# EAGLE library part JCA0305D03 (library custom_parts)
XP JCA 0305D03 DC-DC converter. +5V input, +-15V output, 100mA.
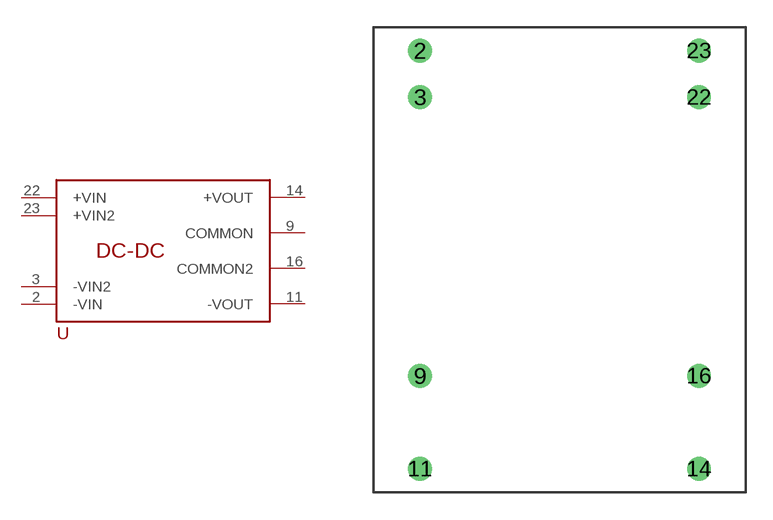
[diagram p3: symbol with the pads of XPDCDCCONV; footprint XPDCDCCONV]

Designator prefix -

## JCA0305D03  [XPDCDCCONV]
2  -VIN
3  -VIN2
9  COMMON
11  -VOUT
14  +VOUT
16  COMMON2
22  +VIN
23  +VIN2

## Footprint XPDCDCCONV (pad centres in mm)
Standard DC-DC converter package. Suits XP JCA0305D03 for instance.
drill 0.8: 2 -7.62,10.16; 3 -7.62,7.62; 9 -7.62,-7.62; 11 -7.62,-12.7; 14 7.62,-12.7; 16 7.62,-7.62; 22 7.62,7.62; 23 7.62,10.16